# Altium schematic symbol library CAPACITOR_CER_SMD.SchLib: 7 symbols
Pins are listed as number, name and electrical type; pins without a type are passive.

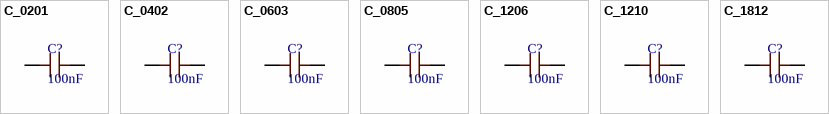
[diagram p0: symbols C_0201 to C_1812]

## C_0201
designator C?, comment 100nF
0201 SMD Ceramic Capacitor.
footprint C_0201 (Capacitor SMD 0201.)
pins: 1, 2

## C_0402
designator C?, comment 100nF
0402 SMD Ceramic Capacitor.
footprint C_0402 (Capacitor SMD 0402.)
pins: 1, 2

## C_0603
designator C?, comment 100nF
0603 SMD Ceramic Capacitor.
footprint C_0603 (Capacitor SMD 0603.)
pins: 1, 2

## C_0805
designator C?, comment 100nF
0805 SMD Ceramic Capacitor.
footprint C_0805 (Capacitor SMD 0805.)
pins: 1, 2

## C_1206
designator C?, comment 100nF
1206 SMD Ceramic Capacitor.
footprint C_1206 (Capacitor SMD 1206.)
pins: 1, 2

## C_1210
designator C?, comment 100nF
1210 SMD Ceramic Capacitor.
footprint C_1210 (Capacitor SMD 1210.)
pins: 1, 2

## C_1812
designator C?, comment 100nF
1812 SMD Ceramic Capacitor.
footprint C_1812 (Capacitor SMD 1812.)
pins: 1, 2